# Altium footprint library SOT23_5-6Lead_M.PcbLib: 14 footprints
Each footprint in its own frame and in the unit in brackets; x right, y up, seen from the top. Pads: shape width x height; smd on the part's side, far side on the other; paste and mask are expansions set on the pad; w line width, h text height; cw(c..) or ccw(c..) is an arc to the next point about the centre after c.
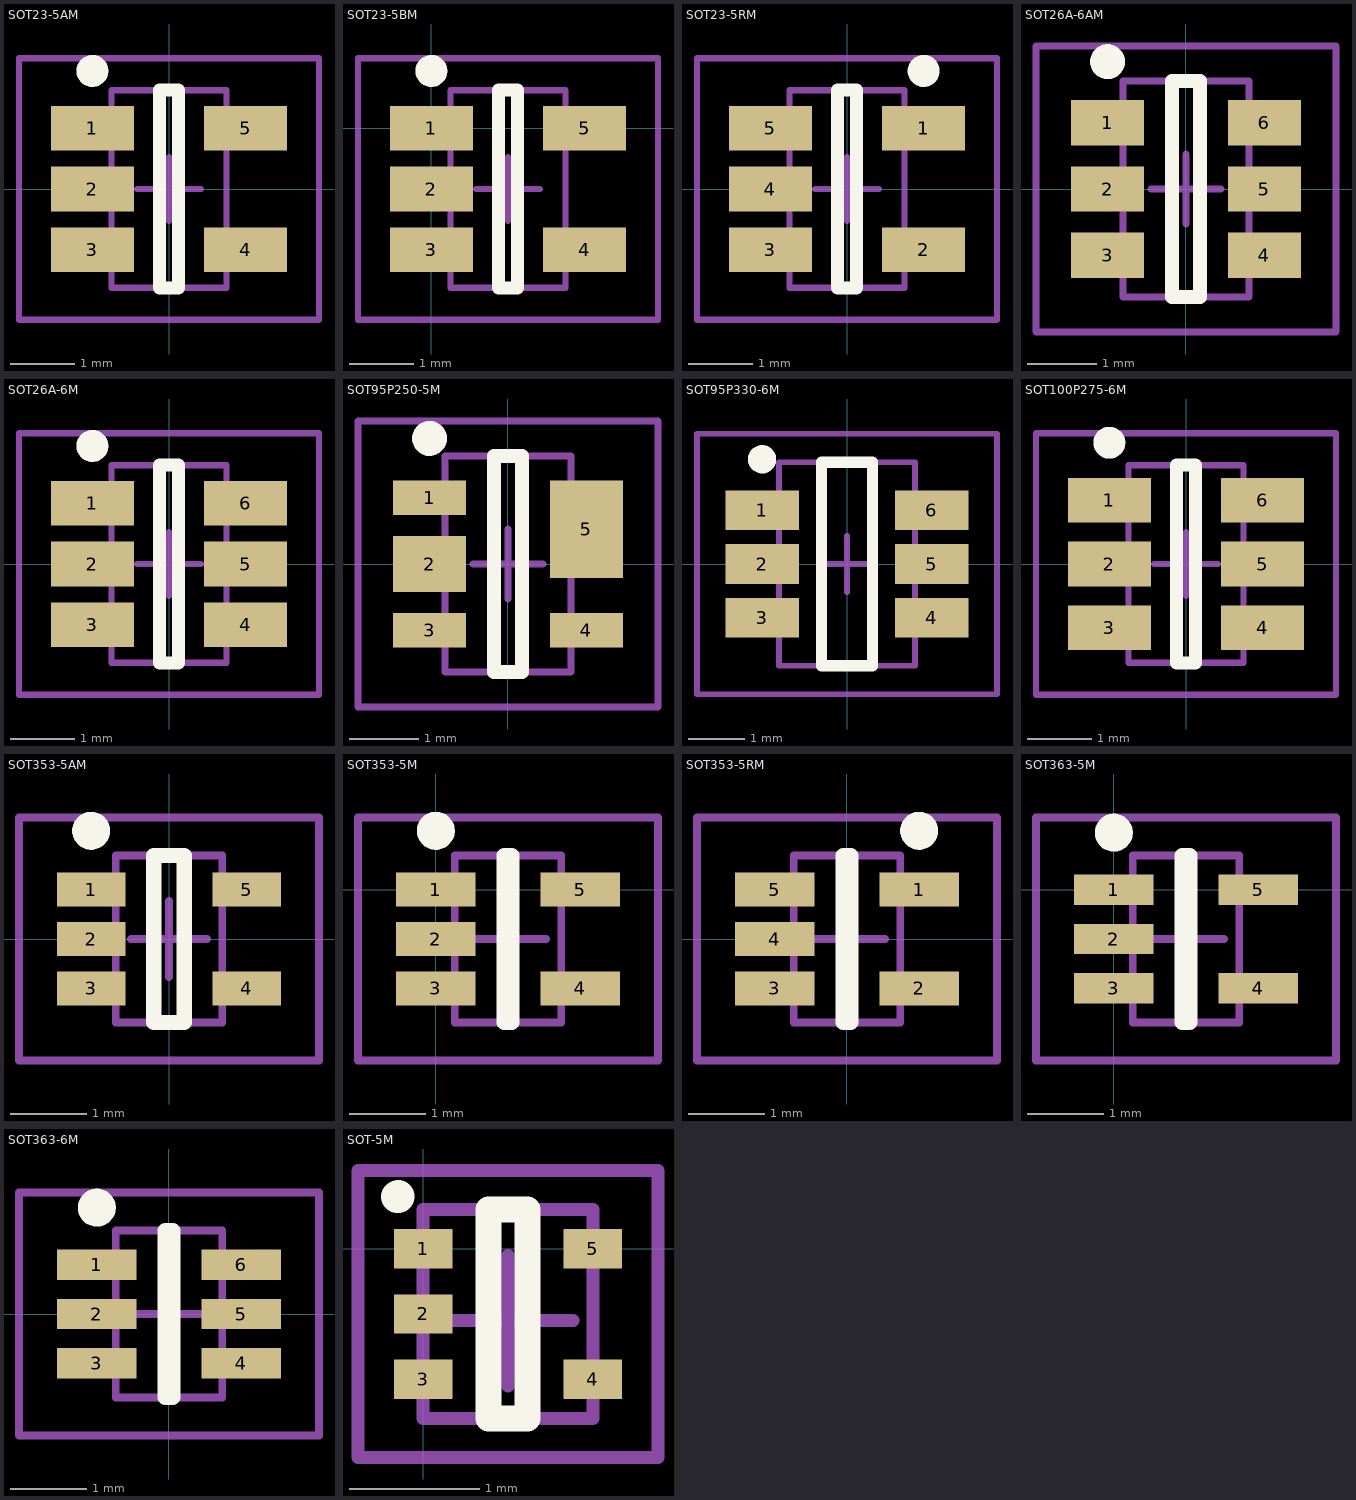
[diagram p0: the footprints below, top view; thin cyan lines are the x and y axes]

## SOT23-5AM [mm] "SOT23, 5-Leads, Body 2.9x1.7mm, Pitch 0.95mm, Lead Span 2.8mm, IPC Low Density"
height 1.45
pads (5):
  rect 1.3x0.7 smd: 1(-1.2,0.95) 2(-1.2,0) 3(-1.2,-0.95) 4(1.2,-0.95) 5(1.2,0.95)
Top Overlay:
  circle w0.25: c-1.2,1.85 r0.125
  lines w0.2: -0.15,-1.55 -0.15,1.55 0.15,1.55 0.15,-1.55 -0.15,-1.55
Mechanical 13:
  lines w0.1: -0.9,-1.55 0.9,-1.55 0.9,1.55 -0.9,1.55 -0.9,-1.55
Mechanical 15:
  lines w0.1: -0.5,0 0.5,0 ; 0,-0.5 0,0.5 ; -2.35,-2.05 2.35,-2.05 2.35,2.05 -2.35,2.05 -2.35,-2.05
3D body: height 1.45, standoff 0, extent -0.9,-1.55 0.9,1.55

## SOT23-5BM [mm] "SOT23, 5-Leads, Body 2.9x1.7mm, Pitch 0.95mm, Lead Span 2.8mm, IPC Low Density"
height 1.19
pads (5):
  rect 1.3x0.7 smd: 1(0,0) 2(0,-0.95) 3(0,-1.9) 4(2.4,-1.9) 5(2.4,0)
Top Overlay:
  circle w0.25: c0,0.9 r0.125
  lines w0.2: 1.05,-2.5 1.05,0.6 1.35,0.6 1.35,-2.5 1.05,-2.5
Mechanical 13:
  lines w0.1: 0.3,-2.5 2.1,-2.5 2.1,0.6 0.3,0.6 0.3,-2.5
Mechanical 15:
  lines w0.1: 0.7,-0.95 1.7,-0.95 ; 1.2,-1.45 1.2,-0.45 ; -1.15,-3 3.55,-3 3.55,1.1 -1.15,1.1 -1.15,-3
3D body: height 1.19, standoff 0, extent 0.3,-2.5 2.1,0.6

## SOT23-5RM [mm]
pads (5):
  rect 1.3x0.7 smd: 1(1.2,0.95) 2(1.2,-0.95) 3(-1.2,-0.95) 4(-1.2,0) 5(-1.2,0.95)
Top Overlay:
  circle w0.25: c1.2,1.85 r0.125
  lines w0.2: -0.15,-1.55 0.15,-1.55 0.15,1.55 -0.15,1.55 -0.15,-1.55
Mechanical 13:
  lines w0.1: -0.9,-1.55 -0.9,1.55 0.9,1.55 0.9,-1.55 -0.9,-1.55
Mechanical 15:
  lines w0.1: -0.5,0 0.5,0 ; 0,-0.5 0,0.5 ; -2.35,-2.05 -2.35,2.05 2.35,2.05 2.35,-2.05 -2.35,-2.05
3D body: height 0, standoff 0, extent -0.9,-1.55 0.9,1.55

## SOT26A-6AM [mm]
pads (6):
  rect 1.05x0.65 smd: 1(-1.125,0.95) 2(-1.125,0) 3(-1.125,-0.95) 4(1.125,-0.95) 5(1.125,0) 6(1.125,0.95)
Top Overlay:
  circle w0.25: c-1.125,1.825 r0.125
  lines w0.2: -0.2,-1.55 0.2,-1.55 0.2,1.55 -0.2,1.55 -0.2,-1.55
Mechanical 13:
  lines w0.1: -0.9,-1.55 -0.9,1.55 0.9,1.55 0.9,-1.55 -0.9,-1.55
Mechanical 15:
  lines w0.1: -0.5,0 0.5,0 ; 0,-0.5 0,0.5 ; -2.15,-2.05 -2.15,2.05 2.15,2.05 2.15,-2.05 -2.15,-2.05
3D body: height 0, standoff 0, extent -0.9,-1.55 0.9,1.55

## SOT26A-6M [mm]
pads (6):
  rect 1.3x0.7 smd: 1(-1.2,0.95) 2(-1.2,0) 3(-1.2,-0.95) 4(1.2,-0.95) 5(1.2,0) 6(1.2,0.95)
Top Overlay:
  circle w0.25: c-1.2,1.85 r0.125
  lines w0.2: -0.15,-1.55 0.15,-1.55 0.15,1.55 -0.15,1.55 -0.15,-1.55
Mechanical 13:
  lines w0.1: -0.9,-1.55 -0.9,1.55 0.9,1.55 0.9,-1.55 -0.9,-1.55
Mechanical 15:
  lines w0.1: -0.5,0 0.5,0 ; 0,-0.5 0,0.5 ; -2.35,-2.05 -2.35,2.05 2.35,2.05 2.35,-2.05 -2.35,-2.05
3D body: height 0, standoff 0, extent -0.9,-1.55 0.9,1.55

## SOT95P250-5M [mm]
pads (5):
  rect 1.05x0.5 smd: 1(-1.125,0.95) 3(-1.125,-0.95) 4(1.125,-0.95)
  rect 1.05x0.8 smd: 2(-1.125,0)
  rect 1.05x1.4 smd: 5(1.125,0.5)
Top Overlay:
  circle w0.25: c-1.125,1.8 r0.125
  lines w0.2: -0.2,-1.55 0.2,-1.55 0.2,1.55 -0.2,1.55 -0.2,-1.55
Mechanical 13:
  lines w0.1: -0.9,-1.55 -0.9,1.55 0.9,1.55 0.9,-1.55 -0.9,-1.55
Mechanical 15:
  lines w0.1: -0.5,0 0.5,0 ; 0,-0.5 0,0.5 ; -2.15,-2.05 -2.15,2.05 2.15,2.05 2.15,-2.05 -2.15,-2.05
3D body: height 0, standoff 0, extent -0.9,-1.55 0.9,1.55

## SOT95P330-6M [mm]
pads (6):
  rect 1.3x0.7 smd: 1(-1.5,0.95) 2(-1.5,0) 3(-1.5,-0.95) 4(1.5,-0.95) 5(1.5,0) 6(1.5,0.95)
Top Overlay:
  circle w0.25: c-1.5,1.85 r0.125
  lines w0.2: -0.45,-1.8 -0.45,1.8 0.45,1.8 0.45,-1.8 -0.45,-1.8
Mechanical 13:
  lines w0.1: -1.2,-1.8 1.2,-1.8 1.2,1.8 -1.2,1.8 -1.2,-1.8
Mechanical 15:
  lines w0.1: -0.5,0 0.5,0 ; 0,-0.5 0,0.5 ; -2.65,-2.3 2.65,-2.3 2.65,2.3 -2.65,2.3 -2.65,-2.3
3D body: height 0, standoff 0, extent -1.2,-1.8 1.2,1.8

## SOT100P275-6M [mm]
pads (6):
  rect 1.3x0.7 smd: 1(-1.2,1) 2(-1.2,0) 3(-1.2,-1) 4(1.2,-1) 5(1.2,0) 6(1.2,1)
Top Overlay:
  circle w0.25: c-1.2,1.9 r0.125
  lines w0.2: -0.15,-1.55 -0.15,1.55 0.15,1.55 0.15,-1.55 -0.15,-1.55
Mechanical 13:
  lines w0.1: -0.9,-1.55 0.9,-1.55 0.9,1.55 -0.9,1.55 -0.9,-1.55
Mechanical 15:
  lines w0.1: -0.5,0 0.5,0 ; 0,-0.5 0,0.5 ; -2.35,-2.05 2.35,-2.05 2.35,2.05 -2.35,2.05 -2.35,-2.05
3D body: height 0, standoff 0, extent -0.9,-1.55 0.9,1.55

## SOT353-5AM [mm]
pads (5):
  rect 0.9x0.45 smd: 1(-1.025,0.65) 2(-1.025,0) 3(-1.025,-0.65) 4(1.025,-0.65) 5(1.025,0.65)
Top Overlay:
  circle w0.25: c-1.025,1.425 r0.125
  lines w0.2: -0.2,-1.1 -0.2,1.1 0.2,1.1 0.2,-1.1 -0.2,-1.1
Mechanical 13:
  lines w0.1: -0.7,-1.1 0.7,-1.1 0.7,1.1 -0.7,1.1 -0.7,-1.1
Mechanical 15:
  lines w0.1: -0.5,0 0.5,0 ; 0,-0.5 0,0.5 ; -1.975,-1.6 1.975,-1.6 1.975,1.6 -1.975,1.6 -1.975,-1.6
3D body: height 0, standoff 0, extent -0.7,-1.1 0.7,1.1

## SOT353-5M [mm]
pads (5):
  rect 1.05x0.45 smd: 1(0,0) 2(0,-0.65) 3(0,-1.3) 4(1.9,-1.3) 5(1.9,0)
Top Overlay:
  circle w0.25: c0,0.775 r0.125
  lines w0.2: 0.9,-1.75 1,-1.75 1,0.45 0.9,0.45 0.9,-1.75
Mechanical 13:
  lines w0.1: 0.25,-1.75 0.25,0.45 1.65,0.45 1.65,-1.75 0.25,-1.75
Mechanical 15:
  lines w0.1: 0.45,-0.65 1.45,-0.65 ; 0.95,-1.15 0.95,-0.15 ; -1.025,-2.25 -1.025,0.95 2.925,0.95 2.925,-2.25 -1.025,-2.25
3D body: height 0, standoff 0, extent 0.25,-1.75 1.65,0.45

## SOT353-5RM [mm]
pads (5):
  rect 1.05x0.45 smd: 1(0.95,0.65) 2(0.95,-0.65) 3(-0.95,-0.65) 4(-0.95,0) 5(-0.95,0.65)
Top Overlay:
  circle w0.25: c0.95,1.425 r0.125
  lines w0.2: -0.05,-1.1 0.05,-1.1 0.05,1.1 -0.05,1.1 -0.05,-1.1
Mechanical 13:
  lines w0.1: -0.7,-1.1 -0.7,1.1 0.7,1.1 0.7,-1.1 -0.7,-1.1
Mechanical 15:
  lines w0.1: -0.5,0 0.5,0 ; 0,-0.5 0,0.5 ; -1.975,-1.6 -1.975,1.6 1.975,1.6 1.975,-1.6 -1.975,-1.6
3D body: height 0, standoff 0, extent -0.7,-1.1 0.7,1.1

## SOT363-5M [mm]
pads (5):
  rect 1.05x0.4 smd: 1(0,0) 2(0,-0.65) 3(0,-1.3) 4(1.9,-1.3) 5(1.9,0)
Top Overlay:
  circle w0.25: c0,0.75 r0.125
  lines w0.2: 0.9,-1.75 0.9,0.45 1,0.45 1,-1.75 0.9,-1.75
Mechanical 13:
  lines w0.1: 0.25,-1.75 1.65,-1.75 1.65,0.45 0.25,0.45 0.25,-1.75
Mechanical 15:
  lines w0.1: 0.45,-0.65 1.45,-0.65 ; 0.95,-1.15 0.95,-0.15 ; -1.025,-2.25 2.925,-2.25 2.925,0.95 -1.025,0.95 -1.025,-2.25
3D body: height 0, standoff 0, extent 0.25,-1.75 1.65,0.45

## SOT363-6M [mm]
pads (6):
  rect 1.05x0.4 smd: 1(-0.95,0.65) 2(-0.95,0) 3(-0.95,-0.65) 4(0.95,-0.65) 5(0.95,0) 6(0.95,0.65)
Top Overlay:
  circle w0.25: c-0.95,1.4 r0.125
  lines w0.2: -0.05,-1.1 -0.05,1.1 0.05,1.1 0.05,-1.1 -0.05,-1.1
Mechanical 13:
  lines w0.1: -0.7,-1.1 0.7,-1.1 0.7,1.1 -0.7,1.1 -0.7,-1.1
Mechanical 15:
  lines w0.1: -0.5,0 0.5,0 ; 0,-0.5 0,0.5 ; -1.975,-1.6 1.975,-1.6 1.975,1.6 -1.975,1.6 -1.975,-1.6
3D body: height 0, standoff 0, extent -0.7,-1.1 0.7,1.1

## SOT-5M [mm]
pads (5):
  rect 0.45x0.3 smd: 1(0,0) 2(0,-0.5) 3(0,-1) 4(1.3,-1) 5(1.3,0)
Top Overlay:
  lines w0.2: 0.5,-1.3 0.5,0.3 0.8,0.3 0.8,-1.3 0.5,-1.3
  lines w0.25: -0.2,0.4 ccw(c-0.197,0.429) -0.19,0.401
Mechanical 13:
  lines w0.1: 0,-1.3 0,0.3 1.3,0.3 1.3,-1.3 0,-1.3
Mechanical 15:
  lines w0.1: 0.15,-0.55 1.15,-0.55 ; 0.65,-1.05 0.65,-0.05 ; -0.5,-1.6 -0.5,0.6 1.8,0.6 1.8,-1.6 -0.5,-1.6
3D body: height 0, standoff 0, extent 0,-1.35 1.3,0.35